# EAGLE library part TMC223-LI (library trinamic)
TRINAMIC Micro Stepping Stepper Motor Controller / Driver with Two Wire Serial Interface and Sensorless Stall Detection Information given in this library is believed to be accurate and reliable. However no warranty is given for its correctness. Datasheet for TMC223 <http://www.trinamic.com/tmc/media/Downloads/integrated_circuits/TMC223/TMC223_datasheet.pdf> Description Micro Stepping Stepper Motor Controller / Driver with Two Wire Serial Interface and Sensorless Stall Detection The TMC223 is a combined micro-stepping stepper motor motion controller and driver with RAM and OTP memory and integrated sensorless stall detection. The RAM or OTP memory is used to store motor parameters and configuration settings. The TMC223 allows up to four bit of micro stepping and a coil current of up to 800 mA. After initialization it performs all time critical tasks autonomously based on target positions and velocity parameters. Communications to a host takes place via a two wire serial interface. Together with an inexpensive micro controller the TMC223 forms a complete motion control system. The TMC223 is fully upwards compatible to the TMC222. Specifications Motor driver 2-phase bipolar stepper motor controller+driver Controls one stepper motor with four bit micro stepping Programmable coil current up to 800 mA / supply voltage range operating range 8V ... 29V Fixed frequency PWM current control with automatic selection of fast and slow decay mode Full step frequencies up to 1 kHz High temperature, open circuit, short, over-current and under-voltage diagnostics Motion controller Internal 16-bit wide position counter Configurable speed and acceleration settings Build-in ramp generator for autonomous positioning and speed control On-the-fly alteration of target position reference switch input available for read out Two wire serial interface Transfer rates up to 350 kbps Diagnostics and status information as well as motion parameters accessible Field-programmable node addresses (32) Sensorless Stall Detection GetFullStatus1 & GetFullStatus2 with parameters SetStallParam to set stall detection parameters
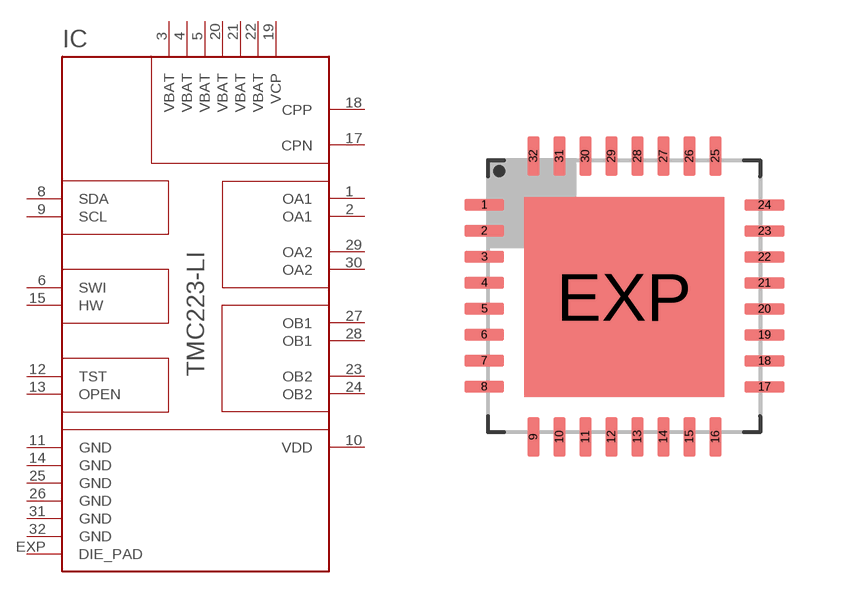
[diagram p14: symbol with the pads of QFN32_7X7; footprint QFN32_7X7]

Designator prefix IC

## TMC223-LI  [QFN32_7X7]
1  OA1  out
2  OA1  out
3  VBAT  in
4  VBAT  in
5  VBAT  in
6  SWI  in
8  SDA
9  SCL  in
10  VDD  in
11  GND  in
12  TST  in
13  OPEN  nc
14  GND  in
15  HW  in
17  CPN  in
18  CPP  in
19  VCP  in
20  VBAT  in
21  VBAT  in
22  VBAT  in
23  OB2  out
24  OB2  out
25  GND  in
26  GND  in
27  OB1  out
28  OB1  out
29  OA2  out
30  OA2  out
31  GND  in
32  GND  in
EXP  DIE_PAD  in

## Footprint QFN32_7X7 (pad centres in mm)
smd 1 x 0.3: 1 -3.505,2.28; 2 -3.505,1.63; 3 -3.505,0.98; 4 -3.505,0.33; 5 -3.505,-0.32; 6 -3.505,-0.97; 7 -3.505,-1.62; 8 -3.505,-2.27; 17 3.5,-2.275; 18 3.5,-1.625; 19 3.5,-0.975; 20 3.5,-0.325; 21 3.5,0.325; 22 3.5,0.975; 23 3.5,1.625; 24 3.5,2.275
smd 0.3 x 1: 9 -2.275,-3.525; 10 -1.625,-3.525; 11 -0.975,-3.525; 12 -0.325,-3.525; 13 0.325,-3.525; 14 0.975,-3.525; 15 1.625,-3.525; 16 2.275,-3.525; 25 2.275,3.5; 26 1.625,3.5; 27 0.975,3.5; 28 0.325,3.5; 29 -0.325,3.5; 30 -0.975,3.5; 31 -1.625,3.5; 32 -2.275,3.5
smd 5 x 5: EXP -0.01,-0.02